# Altium footprint library PCB1.PcbLib: 11 footprints
Each footprint in its own frame and in the unit in brackets; x right, y up, seen from the top. Pads: shape width x height; smd on the part's side, far side on the other; paste and mask are expansions set on the pad; w line width, h text height; cw(c..) or ccw(c..) is an arc to the next point about the centre after c.
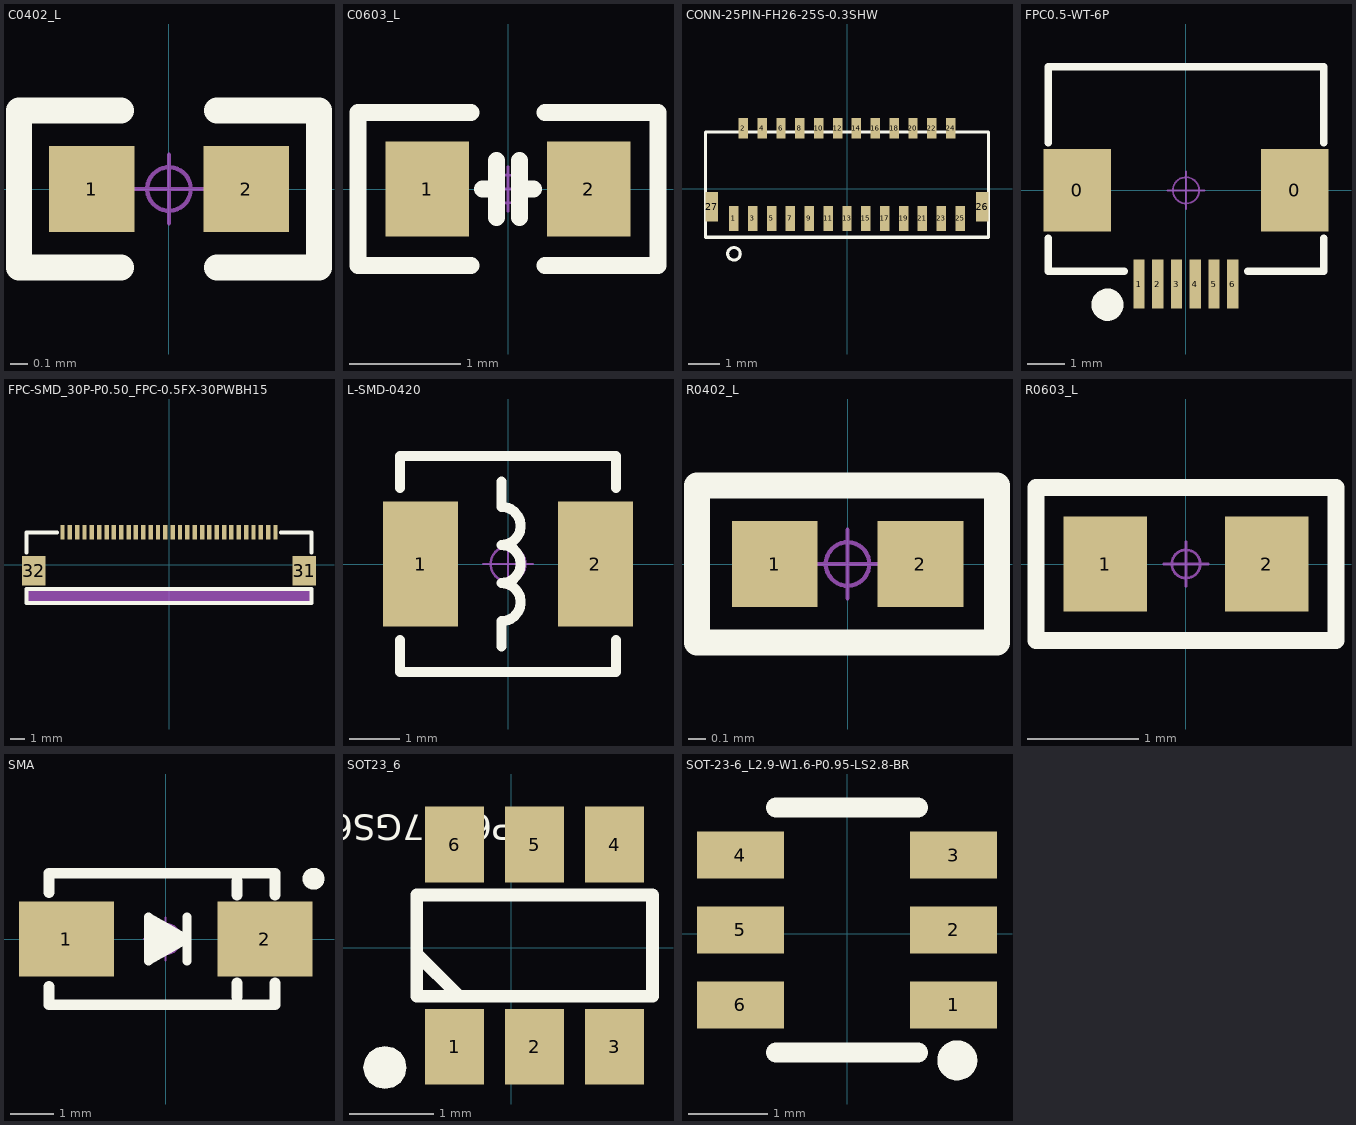
[diagram p0: the footprints below, top view; thin cyan lines are the x and y axes]

## C0402_L [mm] "贴片MLCC电容"
pads (2):
  rect 0.5x0.5 smd: 1(-0.45,0) 2(0.45,0)
Top Overlay:
  lines w0.152: -0.279,-0.457 -0.875,-0.457 -0.875,0.457 -0.279,0.457 ; 0.279,-0.457 0.875,-0.457 0.875,0.457 0.279,0.457
Mechanical 15:
  circle w0.025: c0,0 r0.127
  lines w0.025: -0.2,0 0.2,0 ; 0,-0.2 0,0.2
3D body "C0402-B-2S.stp": height 0.5, standoff 0, extent -0.5,-0.25 0.5,0.25

## C0603_L [mm] "贴片MLCC电容"
pads (2):
  rect 0.75x0.85 smd: 1(-0.725,0) 2(0.725,0)
Top Overlay:
  lines w0.152: -0.33,-0.686 -1.346,-0.686 -1.346,0.686 -0.33,0.686 ; -0.229,0 -0.102,0 ; -0.102,-0.254 -0.102,0.254 ; 0.102,-0.254 0.102,0.254 ; 0.102,0 0.229,0 ; 0.33,-0.686 1.346,-0.686 1.346,0.686 0.33,0.686
Mechanical 15:
  circle w0.025: c0,0 r0.127
  lines w0.025: -0.2,0 0.2,0 ; 0,-0.2 0,0.2
3D body "C0603H08-2S.stp": height 0.8, standoff 0, extent -0.8,-0.4 0.8,0.4

## CONN-25PIN-FH26-25S-0.3SHW [mm]
pads (27):
  rect 0.3x0.8 smd paste+0 mask+0.051: 1(-3.6,-0.937) 3(-3,-0.937) 5(-2.4,-0.937) 7(-1.8,-0.937) 9(-1.2,-0.937) 11(-0.6,-0.937) 13(0,-0.937) 15(0.6,-0.937) 17(1.2,-0.937) 19(1.8,-0.937) 21(2.4,-0.937) 23(3,-0.937) 25(3.6,-0.937)
  rect 0.3x0.65 smd paste+0 mask+0.051: 2(-3.3,1.938) 4(-2.7,1.938) 6(-2.1,1.938) 8(-1.5,1.938) 10(-0.9,1.938) 12(-0.3,1.938) 14(0.3,1.938) 16(0.9,1.938) 18(1.5,1.938) 20(2.1,1.938) 22(2.7,1.938) 24(3.3,1.938)
  rect 0.4x0.95 smd paste+0 mask+0.051: 26(4.3,-0.563) 27(-4.3,-0.563)
Top Overlay:
  lines w0.1: -4.5,-1.538 -4.5,1.812 ; -4.5,-1.538 4.5,-1.538 ; -4.5,-1.538 4.5,-1.538 ; -4.5,-1.538 -4.5,1.812 ; -4.5,1.812 4.5,1.812 ; -4.5,1.812 4.5,1.812 ; 4.5,-1.538 4.5,1.812 ; 4.5,-1.538 4.5,1.812 ; -3.604,-2.263 cw(c-3.6,-2.063) -3.6,-2.263 ccw(c-3.6,-2.063) -3.604,-2.263

## FPC0.5-WT-6P [mm] "长：7.2mm，宽：5.2mm，高：2mm               黄晶宝石"
pads (8):
  rect 1.8x2.2 smd: 0(-2.9,0) 0(2.9,0)
  rect 0.3x1.3 smd: 1(-1.25,-2.497) 2(-0.75,-2.497) 3(-0.25,-2.497) 4(0.25,-2.497) 5(0.75,-2.497) 6(1.25,-2.497)
Top Overlay:
  circle w0.5: c-2.094,-3.048 r0.18
  lines w0.2: -3.675,-1.27 -3.675,-2.159 -1.643,-2.159 ; -3.675,1.27 -3.675,3.302 3.675,3.302 3.675,1.27 ; 1.643,-2.159 3.675,-2.159 3.675,-1.27
Mechanical 15:
  circle w0.05: c0,0 r0.35
  lines w0.05: -0.5,0 0.5,0 ; 0,-0.5 0,0.5
3D body "FPC0.5_2H-S-W-6P.STEP": height 2, standoff -0.01, extent -3.6,-2.85 3.6,3.15

## FPC-SMD_30P-P0.50_FPC-0.5FX-30PWBH15 [mm]
pads (32):
  rect 0.3x1 smd paste+0 mask+0.051: 1(-7.25,2.221) 2(-6.75,2.221) 3(-6.25,2.221) 4(-5.75,2.221) 5(-5.25,2.221) 6(-4.75,2.221) 7(-4.25,2.221) 8(-3.75,2.221) 9(-3.25,2.221) 10(-2.75,2.221) 11(-2.25,2.221) 12(-1.75,2.221) 13(-1.25,2.221) 14(-0.75,2.221) 15(-0.25,2.221) 16(0.25,2.221) 17(0.75,2.221) 18(1.25,2.221) 19(1.75,2.221) 20(2.25,2.221) 21(2.75,2.221) 22(3.25,2.221) 23(3.75,2.221) 24(4.25,2.221) 25(4.75,2.221) 26(5.25,2.221) 27(5.75,2.221) 28(6.25,2.221) 29(6.75,2.221) 30(7.25,2.221)
  rect 1.6x2 smd paste+0 mask+0.051: 31(9.21,-0.409) 32(-9.21,-0.409)
Top Overlay:
  lines w0.254: -9.7,0.822 -9.7,2.206 -7.631,2.206 ; 7.63,2.206 9.7,2.206 9.7,0.822 ; -9.7,-2.594 9.7,-2.594 9.7,-1.64 -9.7,-1.64 -9.7,-2.594
Mechanical 15:
  region: -9.7,-1.594 -9.7,-2.594 9.7,-2.594 9.7,-1.594

## L-SMD-0420 [mm] "一体化成型电感                     联系卖家 免费人工查找封装"
pads (2):
  rect 1.5x2.5 smd: 1(-1.75,0) 2(1.75,0)
Top Overlay:
  lines w0.203: -2.159,-1.524 -2.159,-2.159 2.159,-2.159 2.159,-1.524 ; -2.159,1.524 -2.159,2.159 2.159,2.159 2.159,1.524 ; -0.127,-1.651 -0.127,-1.143 ccw(c-0.127,-0.762) -0.127,-0.381 ccw(c-0.127,0) -0.127,0.381 ccw(c-0.127,0.762) -0.127,1.143 -0.127,1.651
Mechanical 15:
  circle w0.05: c0,0 r0.35
  lines w0.05: -0.5,0 0.5,0 ; 0,-0.5 0,0.5
3D body "SMD-0420-5.stp": height -0.43, standoff -2.46, extent -2.25,-2.05 2.25,2.05

## R0402_L [mm] "1/16W贴片电阻"
pads (2):
  rect 0.5x0.5 smd: 1(-0.425,0) 2(0.425,0)
Top Overlay:
  lines w0.152: -0.878,-0.457 -0.878,0.457 0.872,0.457 0.872,-0.457 -0.878,-0.457
Mechanical 15:
  circle w0.025: c0,0 r0.127
  lines w0.025: -0.2,0 0.2,0 ; 0,-0.2 0,0.2
3D body "R0402.STEP": height 0.3, standoff 0, extent -0.5,-0.25 0.5,0.25

## R0603_L [mm] "1/10W贴片电阻"
pads (2):
  rect 0.75x0.85 smd: 1(-0.725,0) 2(0.725,0)
Top Overlay:
  lines w0.152: -1.346,-0.686 -1.346,0.686 1.346,0.686 1.346,-0.686 -1.346,-0.686
Mechanical 15:
  circle w0.025: c0,0 r0.127
  lines w0.025: -0.2,0 0.2,0 ; 0,-0.2 0,0.2
3D body "R0603-2.stp": height 0.4, standoff 0, extent -0.8,-0.4 0.8,0.4

## SMA [mm] "4.5x2.6*2.2mm（长宽高，不包括引脚）联系卖家 免费查找封装"
height 2.54
pads (2):
  rect 2.2x1.75 smd: 1(-2.3,0) 2(2.3,0)
Top Overlay:
  circle w0.254: c3.429,1.397 r0.127
  lines w0.203: 0.494,-0.508 0.494,0.508 ; -0.395,-0.508 0.494,0 -0.395,0.508 -0.395,-0.508
  lines w0.254: -2.7,-1.105 -2.7,-1.524 2.54,-1.524 2.54,-1.016 ; -2.7,1.08 -2.7,1.524 2.54,1.524 2.54,1.016 ; -0.33,0.305 0.305,0 -0.254,-0.305 -0.254,0.051 0.023,0 ; 1.651,-1.35 1.651,-1.016 ; 1.651,1.016 1.651,1.35
Mechanical 15:
  circle w0.05: c0,0 r0.35
  lines w0.05: -0.5,0 0.5,0 ; 0,-0.5 0,0.5
3D body "SMA.stp": height 2.15, standoff 0.05, extent -2.552,-1.3 2.552,1.3

## SOT23_6 [mm]
pads (6):
  rect 0.7x0.9 smd paste+0 mask+0.051: 1(-0.671,-1.173) 2(0.279,-1.173) 3(1.229,-1.173) 4(1.229,1.226) 5(0.279,1.226) 6(-0.671,1.226)
Top Overlay:
  region: -1.499,-1.676 -1.597,-1.657 -1.679,-1.602 -1.735,-1.519 -1.754,-1.421 -1.735,-1.324 -1.716,-1.296 -1.679,-1.241 -1.597,-1.186 -1.499,-1.166 -1.401,-1.186 -1.319,-1.241 -1.282,-1.296 -1.264,-1.324 -1.244,-1.421 -1.264,-1.519 -1.319,-1.602 -1.401,-1.657
  lines w0.15: -1.121,-0.074 -0.621,-0.574 ; -1.121,-0.574 -1.121,0.626 1.679,0.626 1.679,-0.574 -1.121,-0.574
  text "TP6327GS6" at 0.279,1.581 h0.3

## SOT-23-6_L2.9-W1.6-P0.95-LS2.8-BR [mm]
pads (6):
  rect 1.1x0.6 smd paste+0 mask+0.051: 1(1.35,-0.899) 2(1.35,0.051) 3(1.35,1.001) 4(-1.35,1.001) 5(-1.35,0.051) 6(-1.35,-0.899)
Top Overlay:
  circle w0.254: c1.397,-1.6 r0.127
  lines w0.254: -0.9,-1.5 0.9,-1.5 ; -0.9,1.6 0.9,1.6
Mechanical 15:
  circle w0.2: c1.4,-0.899 r0.1